# EAGLE library part TLV3542 (library ICs)
Operational Amplifier, RRIO, 2 Amplifier, 100 MHz, 150 V/µs, 2.5V to 5.5V, SOIC, 8 Pins
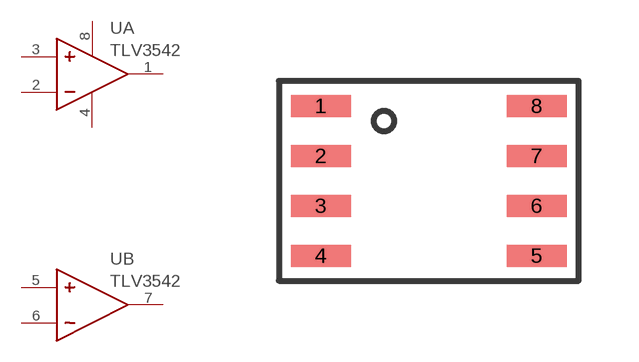
[diagram p151: symbol with the pads of SO8; footprint SO8]

Designator prefix U; gates A=OPAMP_SUPPLIES B=OPAMP_NOSUPPLIES

## TLV3542IDR (FARNELL: 2677092; PRICE_PER: 1.9; VALUE: TLV3542)  [SO8]
1  A:OUT
2  A:-
3  A:+
4  A:V-
5  B:+
6  B:-
7  B:OUT
8  A:V+

## Footprint SO8 (pad centres in mm)
smd 1.5 x 0.55: 1 -2.7,1.875; 2 -2.7,0.625; 3 -2.7,-0.625; 4 -2.7,-1.875; 5 2.7,-1.875; 6 2.7,-0.625; 7 2.7,0.625; 8 2.7,1.875